# EAGLE library part DCMI-PRELIM (library TinWhiskers)
Connector: Dig. Camera Interface (DCMI), 24-pin;
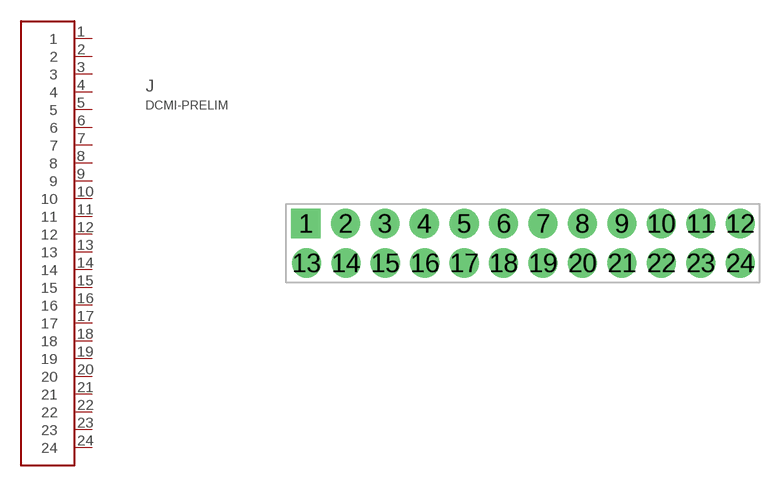
[diagram p6: symbol with the pads of CON-DCMI-PRELIM; footprint CON-DCMI-PRELIM]

Designator prefix J

## DCMI-PRELIM  [CON-DCMI-PRELIM]
1  1
2  2
3  3
4  4
5  5
6  6
7  7
8  8
9  9
10  10
11  11
12  12
13  13
14  14
15  15
16  16
17  17
18  18
19  19
20  20
21  21
22  22
23  23
24  24

## Footprint CON-DCMI-PRELIM (pad centres in mm)
drill 1.25 square: 1 -13.97,1.27
drill 1.25: 2 -11.42,1.27; 3 -8.88,1.27; 4 -6.34,1.27; 5 -3.77,1.27; 6 -1.23,1.27; 7 1.31,1.27; 8 3.85,1.27; 9 6.39,1.27; 10 8.93,1.27; 11 11.47,1.27; 12 14.01,1.27; 13 -13.93,-1.27; 14 -11.39,-1.27; 15 -8.85,-1.27; 16 -6.31,-1.27; 17 -3.77,-1.27; 18 -1.23,-1.27; 19 1.31,-1.27; 20 3.85,-1.27; 21 6.39,-1.27; 22 8.93,-1.27; 23 11.47,-1.27; 24 14.01,-1.27